# EAGLE library part SST25VF080B-50-4I-S2AF (library Silicon_Storage_Tech_By_element14_Batch_1)
8 Mbit SPI Serial Flash
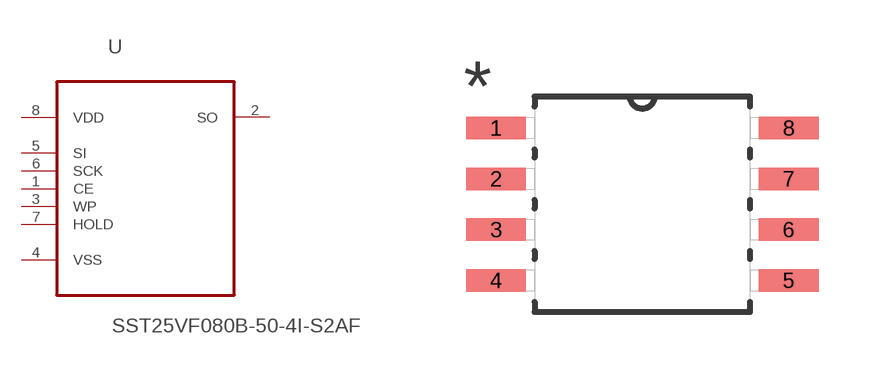
[diagram p4: symbol with the pads of SOIC127P790X216-8N; footprint SOIC127P790X216-8N]

Designator prefix U

## SST25VF080B-50-4I-S2AF (MPN: SST25VF080B-50-4I-S2AF; OC_FARNELL: 1368693; OC_NEWARK: 54M1126; PACKAGE: SOIC-8; SUPPLIER: SILICON STORAGE TECHNOLOGY)  [SOIC127P790X216-8N]
1  CE  in
2  SO  out
3  WP  in
4  VSS  pas
5  SI  in
6  SCK  in
7  HOLD  in
8  VDD  pwr

## Footprint SOIC127P790X216-8N (pad centres in mm)
smd 1.499 x 0.559: 1 -3.658,1.905; 2 -3.658,0.635; 3 -3.658,-0.635; 4 -3.658,-1.905; 5 3.658,-1.905; 6 3.658,-0.635; 7 3.658,0.635; 8 3.658,1.905